# Altium footprint library SA53.PcbLib: 1 footprints
Each footprint in its own frame and in the unit in brackets; x right, y up, seen from the top. Pads: shape width x height; smd on the part's side, far side on the other; paste and mask are expansions set on the pad; w line width, h text height; cw(c..) or ccw(c..) is an arc to the next point about the centre after c.
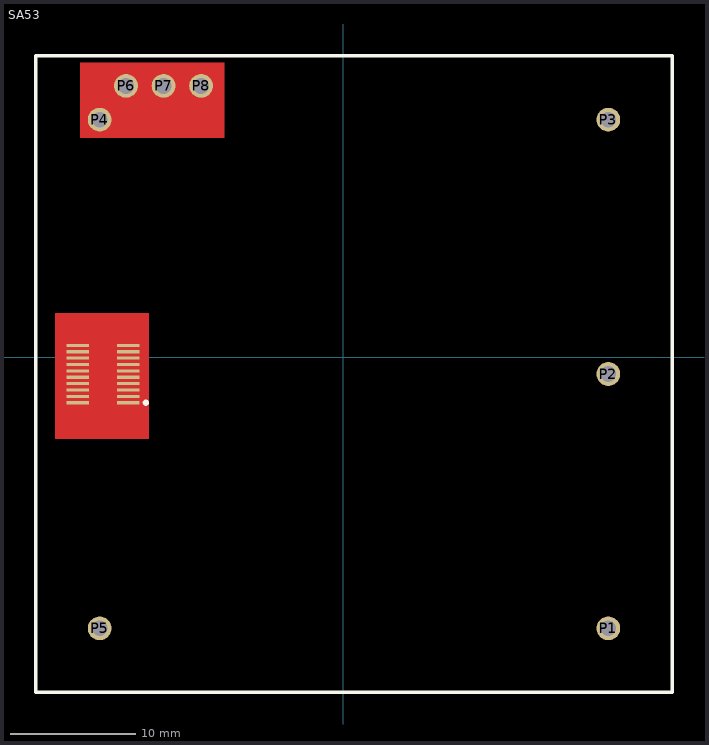
[diagram p0: the footprint, top view; thin cyan lines are the x and y axes]

## SA53 [mm]
pads (28):
  rect 1.8x0.25 smd: 1(-17.167,-3.641) 2(-21.167,-3.641) 3(-17.167,-3.133) 4(-21.167,-3.133) 5(-17.167,-2.625) 6(-21.167,-2.625) 7(-17.167,-2.117) 8(-21.167,-2.117) 9(-17.167,-1.609) 10(-21.167,-1.609) 11(-17.167,-1.101) 12(-21.167,-1.101) 13(-17.167,-0.593) 14(-21.167,-0.593) 15(-17.167,-0.085) 16(-21.167,-0.085) 17(-17.167,0.423) 18(-21.167,0.423) 19(-17.167,0.931) 20(-21.167,0.931)
  round 1.905 hole 1.27: P1(21.167,-21.65) P2(21.167,-1.35) P3(21.167,18.95) P4(-19.433,18.95) P5(-19.433,-21.65) P6(-17.333,21.65) P7(-14.333,21.65) P8(-11.333,21.65)
Top Layer:
  pour cut-out: -15.5,3.5 -15.5,-6.5 -23,-6.5 -23,3.5
  pour cut-out: -9.5,17.5 -21,17.5 -21,23.5 -9.5,23.5
Top Overlay:
  circle w0.254: c-15.747,-3.641 r0.127
  lines w0.254: -24.533,-26.75 26.267,-26.75 26.267,24.05 -24.533,24.05 -24.533,-26.75
3D body "529910208.stp": height 2.28, standoff -0.01, extent -21.832,-5.75 -16.432,3.05